# EAGLE library part BSS138_2 (library Custom_Library)
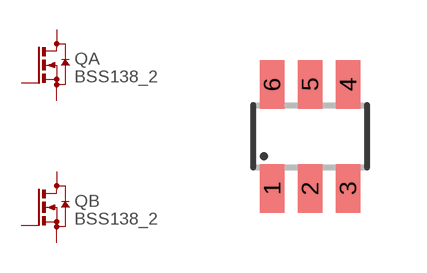
[diagram p21: symbol with the pads of TSOT23-6; footprint TSOT23-6]

Designator prefix Q; gates A=NMOS B=NMOS

## BSS138_2  [TSOT23-6]
1  B:S  pas
2  B:G  pas
3  A:D  pas
4  A:S  pas
5  A:G  pas
6  B:D  pas

## Footprint TSOT23-6 (pad centres in mm)
smd 0.62 x 1.22: 1 -0.95,-1.3; 2 0,-1.3; 3 0.95,-1.3; 4 0.95,1.3; 5 0,1.3; 6 -0.95,1.3